# EAGLE library part JST_7PIN (library isystems-connectors)
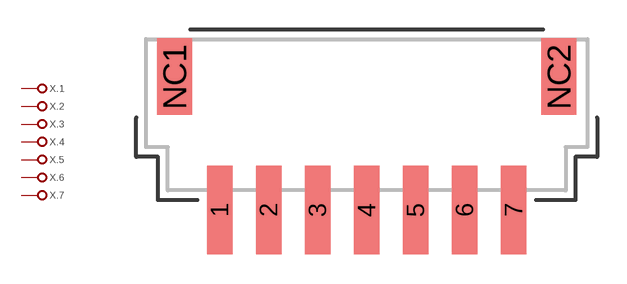
[diagram p1: symbol with the pads of JSTXH7_SMT; footprint JSTXH7_SMT]

Designator prefix X; gates .1=CONX1 .2=CONX1 .3=CONX1 .4=CONX1 .5=CONX1 .6=CONX1 .7=CONX1

## JST_7PIN_XH_SMT  [JSTXH7_SMT]
1  .1:P
2  .2:P
3  .3:P
4  .4:P
5  .5:P
6  .6:P
7  .7:P

## Footprint JSTXH7_SMT (pad centres in mm)
smd 1.3 x 4.5: 1 -7.5,-2.7; 2 -5,-2.7; 3 -2.5,-2.7; 4 0,-2.7; 5 2.5,-2.7; 6 5,-2.7; 7 7.5,-2.7
smd 1.8 x 3.9: NC1 -9.8,4.1; NC2 9.8,4.1